# Altium footprint library con-3m.PCBLIB: 62 footprints (part 2 of 5)
Each footprint in its own frame and in the unit in brackets; x right, y up, seen from the top. Pads: shape width x height; smd on the part's side, far side on the other; paste and mask are expansions set on the pad; w line width, h text height; cw(c..) or ccw(c..) is an arc to the next point about the centre after c.
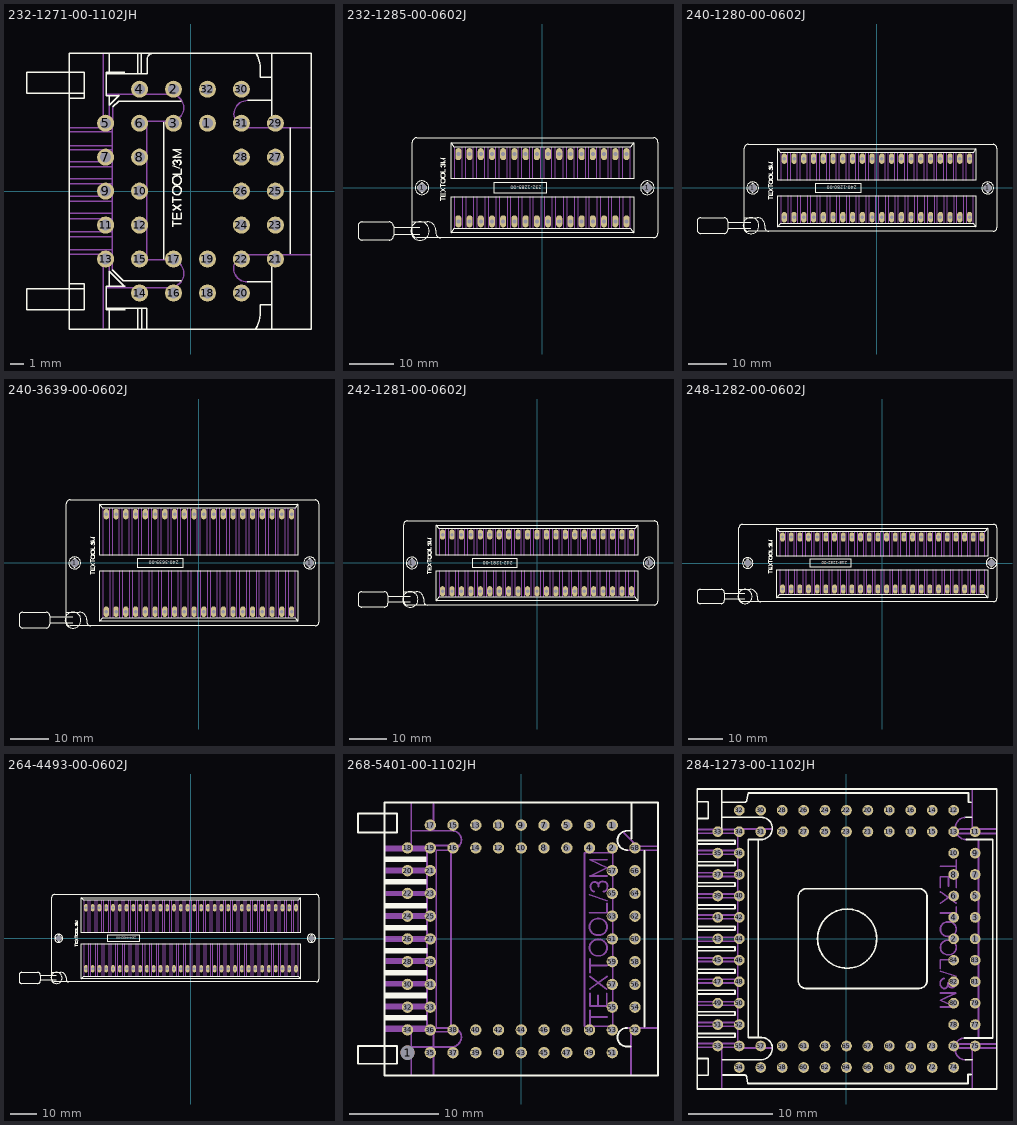
[diagram p1: the footprints below, top view; thin cyan lines are the x and y axes]

## 232-1271-00-1102JH [mil]
pads (32):
  round 50 hole 32: 1(50,200) 2(-50,300) 3(-50,200) 4(-150,300) 5(-250,200) 6(-150,200) 7(-250,100) 8(-150,100) 9(-250,0) 10(-150,0) 11(-250,-100) 12(-150,-100) 13(-250,-200) 14(-150,-300) 15(-150,-200) 16(-50,-300) 17(-50,-200) 18(50,-300) 19(50,-200) 20(150,-300) 21(250,-200) 22(150,-200) 23(250,-100) 24(150,-100) 25(250,0) 26(150,0) 27(250,100) 28(150,100) 29(250,200) 30(150,300) 31(150,200) 32(50,300)
Top Overlay:
  circle w4: c-40.01,2 r13
  circle w4: c-40.01,32 r13
  lines w4: -482.64,-348.94 -358.37,-348.94 ; -482.64,-348.8 -482.64,-288.21 ; -482.64,-287.85 -358.37,-287.85 ; -359.01,350 -482.64,350 -482.64,288 -358.37,288 ; -355.72,-348.94 -312.45,-348.94 -312.45,-272.57 -355.72,-272.57 ; -355.72,-287.85 -315,-287.85 ; -355.72,288 -315,288 ; -355.72,350 -312.45,350 -312.45,273 -354.45,273 ; -246.27,-345.12 -239.91,-345.12 ; -245,346 -127.91,346 -127.91,387 cw(c-108.86,386.95) -108.81,406 ; -239.91,-403.66 -239.91,-345.12 ; -239.91,-278.94 -239.91,-235.66 -196.63,-278.94 ; -239.91,280 -239.91,253 -209.98,283 ; -239.91,350 -239.91,405 ; -229.72,-231.84 -197.91,-263.66 -27.36,-263.66 ; -228.45,248 -211.9,265 -27.36,265 ; -214.5,281 -247.54,281 -247.54,350 -194.09,350 ; -192.81,-280.21 -247.54,-280.21 -247.54,-348.94 -192.7,-348.94 ; -155.91,-404.93 -155.91,-347.66 ; -155.91,349 -155.91,404 ; -144.45,349 -144.45,404 ; -143.18,-403.66 -143.18,-347.66 ; -129.18,-404.93 -129.18,-345.12 -239.91,-345.12 ; -78.27,-201.3 -78.27,203 ; -52.13,-105.17 -52.13,-87.31 ; -52.13,-64.35 -52.13,-80.93 -27.89,-80.93 -27.89,-64.35 ; -52.13,-56.69 -27.89,-40.11 ; -52.13,-40.75 -28.53,-56.69 ; -52.13,-33.73 -52.13,-15.87 ; -52.13,50 -27.89,50 -27.89,66 ; -52.13,75 -32.35,68 ; -50.85,-96.24 -27.89,-96.24 ; -50.85,-24.8 -27.89,-24.8 ; -46.39,78 cw(c-33.1,97.57) -48.94,80 cw(c-46.14,84.72) -47.66,90 cw(c-45.43,82.35) -43.2,90 cw(c-44.62,84.95) -39.37,85 ; -40.65,-79.02 -40.65,-65.62 ; -39.37,83 -39.37,85 ; -32.99,78 ccw(c-33.45,83.54) -29.17,80 ccw(c-35.55,84.27) -30.44,90 ccw(c-33.87,86.03) -38.73,88 ccw(c-31.55,84.91) -39.37,85 ; -27.89,100 -52.13,100 -27.89,111 -52.13,122 -27.89,122 ; 167,-267.48 238,-267.48 ; 169,267 237,267 ; 192,-404.93 ccw(c133.33,-363.77) 205,-364.21 205,-334.94 238,-334.94 ; 193,405 cw(c116.7,358.6) 206,359 206,335 237,335 ; 239,-404.93 239,-189.85 ; 239,190 239,404 ; 294,-184.76 294,186 ; -108.81,406 356,406 356,-406.21 -357,-406.21 -357,406 -108.81,406
Mechanical 16:
  lines w4: -355.09,-133.84 -232.91,-133.84 ; -355.09,-119.84 -232.91,-119.84 ; -354.45,-186.03 -229.72,-186.03 -229.72,187 -354.45,187 ; -354.45,-173.3 -232.27,-173.3 ; -354.45,-30.1 -232.27,-30.1 ; -354.45,-14.83 -232.27,-14.83 ; -354.45,21 -232.27,21 ; -354.45,36 -232.27,36 ; -354.45,72 -232.27,72 ; -354.45,86 -232.27,86 ; -354.45,122 -232.27,122 ; -354.45,133 -232.27,133 ; -354.45,175 -232.27,175 ; -353.81,-81.01 -230.36,-81.01 ; -353.81,-65.74 -231.63,-65.74 ; -256.45,-403.66 -256.45,-187.3 ; -256.45,190 -256.45,405 ; -246.27,285 -59.18,285 cw(c-58.95,245.77) -19.72,246 cw(c-60.58,245.86) -60.45,205 -129.18,205 -129.18,-202.57 -59.18,-202.57 cw(c-59.18,-242.03) -19.72,-242.03 cw(c-61.72,-242.03) -61.72,-284.03 -245,-284.03 ; -239.91,-235.66 -239.91,-187.3 ; -239.91,190 -239.91,253 ; -229.72,-231.84 -229.72,-187.3 ; -228.45,189 -228.45,248 ; 167,-267.48 cw(c166.73,-227.75) 127,-228.03 cw(c167.86,-228.16) 168,-187.3 355,-187.3 ; 169,267 ccw(c168.5,226.5) 128,227 ccw(c168,227) 168,187 355,187

## 232-1285-00-0602J [mil]
pads (34):
  round 79 hole 79: 1(-1074.02,0) 1(937,0)
  oval 54x108 hole 36: 1(-750,-300) 2(-650,-300) 3(-550,-300) 4(-450,-300) 5(-350,-300) 6(-250,-300) 7(-150,-300) 8(-50,-300) 9(50,-300) 10(150,-300) 11(250,-300) 12(350,-300) 13(450,-300) 14(550,-300) 15(650,-300) 16(750,-300) 17(750,300) 18(650,300) 19(550,300) 20(450,300) 21(350,300) 22(250,300) 23(150,300) 24(50,300) 25(-50,300) 26(-150,300) 27(-250,300) 28(-350,300) 29(-450,300) 30(-550,300) 31(-650,300) 32(-750,300)
Top Overlay:
  circle w4: c-1074.41,0 r61
  circle w8: c-1091.73,-386.22 r82
  circle w4: c936,0 r61
  lines w4: -1083.86,-11.81 ccw(c-1086.61,-11.81) -1086.61,-9.06 -1107.87,-9.06 cw(c-1107.87,0) -1116.93,0 cw(c-1107.4,0.47) -1107.87,10 -1086.22,10 ccw(c-1085.84,12.38) -1083.46,12 ; -1083.46,-11.81 -1083.46,-33.46 ccw(c-1074.41,-33.46) -1074.41,-42.52 ccw(c-1074.41,-33.46) -1065.35,-33.46 -1065.35,-12.2 ; -1083.46,13 -1083.46,34 cw(c-1074.44,33.97) -1074.41,43 cw(c-1074.38,33.97) -1065.35,34 -1065.35,12 ccw(c-1062.98,12.38) -1062.6,10 ; -1065.35,-11.81 cw(c-1062.6,-11.81) -1062.6,-9.06 -1040.94,-9.06 ccw(c-1040.94,0) -1031.89,0 ccw(c-1041.42,0.47) -1040.94,10 -1062.2,10 ; -909.45,143 -868.11,143 -868.11,165 ; -908.66,-115.75 -908.66,-84.65 ; -908.66,-46.46 -908.66,-74.02 -867.72,-74.02 -867.72,-45.28 ; -908.66,-33.07 -867.72,-4.72 ; -908.66,-4.72 -867.72,-33.07 ; -908.66,5 -908.66,36 ; -908.27,-100 -867.72,-100 ; -907.87,21 -867.72,21 ; -897.24,188 cw(c-894.51,200.38) -907.09,202 cw(c-898.77,200.56) -902.76,208 cw(c-896.45,197.98) -892.13,209 cw(c-895.01,201.96) -887.4,202 ; -888.58,-72.44 -888.58,-48.82 ; -887.4,199 -887.4,202 ; -876.77,187 ccw(c-876.46,195.96) -867.72,194 ccw(c-891.96,199.2) -867.32,202 ccw(c-879.13,200.78) -871.65,210 ccw(c-877.17,202.01) -882.68,210 ccw(c-878.04,201.87) -887.4,202 ; -867.72,223 -908.27,223 -867.72,242 -908.66,261 -867.72,261 ; 927,12 cw(c925,12) 925,10 903,10 ccw(c903.5,0.5) 894,0 ccw(c903.03,-0.03) 903,-9.06 924,-9.06 cw(c924.12,-11.93) 927,-11.81 927,-33.46 ccw(c936.03,-33.49) 936,-42.52 ccw(c935.97,-33.49) 945,-33.46 945,-12.2 ; 927,13 927,34 cw(c936,34) 936,43 cw(c936,34) 945,34 945,12 ccw(c947.5,12.5) 948,10 ; 945,-11.81 cw(c947.88,-11.93) 948,-9.06 970,-9.06 ccw(c969.97,-0.03) 979,0 ccw(c969.5,0.5) 970,10 949,10 ; -815,-400 815,-400 ; -815,-400 -815,-80 815,-80 815,-400 ; -815,-400 -785,-360 785,-360 815,-400 ; -815,400 -815,80 815,80 815,400 ; -815,400 815,400 ; -815,400 -785,360 785,360 815,400 ; -890.55,44 cw(c-890.55,62.5) -890.55,81 -885.43,81 cw(c-885.43,62.5) -885.43,44 -890.55,44 ; -890.55,92 cw(c-890.55,110.5) -890.55,129 -885.43,129 cw(c-885.43,110.5) -885.43,92 -890.55,92 ; -430,-50 35,-50 35,50 -430,50 -430,-50
  lines w8: -1326.38,-417.72 -1093.7,-417.72 ; -1326.38,-356.69 -1093.7,-356.69 ; -1156.69,-303.54 -1028.74,-303.54 cw(c-1028.74,-382.31) -950,-380.31 -950,-405.91 ccw(c-910.58,-405.91) -908.66,-445.28 ; -1645.28,-428.35 -1645.28,-344.09 cw(c-1605.91,-344.09) -1605.91,-304.72 -1367.72,-304.72 cw(c-1367.72,-344.09) -1328.35,-344.09 -1328.35,-428.35 cw(c-1367.72,-428.35) -1367.72,-467.72 -1605.91,-467.72 cw(c-1605.91,-428.35) -1645.28,-428.35 ; -1161.02,-405.91 ccw(c-1121.65,-405.91) -1121.65,-445.28 991,-445.28 ccw(c991.32,-405.59) 1031,-405.91 1031,406 ccw(c991,406) 991,446 -1121.65,446 ccw(c-1121.34,406.31) -1161.02,406 -1161.02,-405.91
  text "232-1285-00" at -5,20 h34
Mechanical 16:
  lines w4: -785,-360 -785,-80 ; -785,80 -785,360 ; -715,-360 -715,-80 ; -715,80 -715,360 ; -685,-360 -685,-80 ; -685,80 -685,360 ; -615,-360 -615,-80 ; -615,80 -615,360 ; -585,-360 -585,-80 ; -585,80 -585,360 ; -515,-360 -515,-80 ; -515,80 -515,360 ; -485,-360 -485,-80 ; -485,80 -485,360 ; -415,-360 -415,-80 ; -415,80 -415,360 ; -385,-360 -385,-80 ; -385,80 -385,360 ; -315,-360 -315,-80 ; -315,80 -315,360 ; -285,-360 -285,-80 ; -285,80 -285,360 ; -215,-360 -215,-80 ; -215,80 -215,360 ; -185,-360 -185,-80 ; -185,80 -185,360 ; -115,-360 -115,-80 ; -115,80 -115,360 ; -85,-360 -85,-80 ; -85,80 -85,360 ; -15,-360 -15,-80 ; -15,80 -15,360 ; 15,-360 15,-80 ; 15,80 15,360 ; 85,-360 85,-80 ; 85,80 85,360 ; 115,-360 115,-80 ; 115,80 115,360 ; 185,-360 185,-80 ; 185,80 185,360 ; 215,-360 215,-80 ; 215,80 215,360 ; 285,-360 285,-80 ; 285,80 285,360 ; 315,-360 315,-80 ; 315,80 315,360 ; 385,-360 385,-80 ; 385,80 385,360 ; 415,-360 415,-80 ; 415,80 415,360 ; 485,-360 485,-80 ; 485,80 485,360 ; 515,-360 515,-80 ; 515,80 515,360 ; 585,-360 585,-80 ; 585,80 585,360 ; 615,-360 615,-80 ; 615,80 615,360 ; 685,-360 685,-80 ; 685,80 685,360 ; 715,-360 715,-80 ; 715,80 715,360 ; 785,-360 785,-80 ; 785,80 785,360

## 240-1280-00-0602J [mil]
pads (42):
  round 79 hole 79: 1(-1274.02,0) 1(1137,0)
  oval 54x108 hole 36: 1(-950,-300) 2(-850,-300) 3(-750,-300) 4(-650,-300) 5(-550,-300) 6(-450,-300) 7(-350,-300) 8(-250,-300) 9(-150,-300) 10(-50,-300) 11(50,-300) 12(150,-300) 13(250,-300) 14(350,-300) 15(450,-300) 16(550,-300) 17(650,-300) 18(750,-300) 19(850,-300) 20(950,-300) 21(950,300) 22(850,300) 23(750,300) 24(650,300) 25(550,300) 26(450,300) 27(350,300) 28(250,300) 29(150,300) 30(50,300) 31(-50,300) 32(-150,300) 33(-250,300) 34(-350,300) 35(-450,300) 36(-550,300) 37(-650,300) 38(-750,300) 39(-850,300) 40(-950,300)
Top Overlay:
  circle w4: c-1274.41,0 r61
  circle w8: c-1291.73,-386.22 r82
  circle w4: c1136,0 r61
  lines w4: -1283.86,-11.81 ccw(c-1286.61,-11.81) -1286.61,-9.06 -1307.87,-9.06 cw(c-1307.87,0) -1316.93,0 cw(c-1307.4,0.47) -1307.87,10 -1286.22,10 ccw(c-1285.84,12.38) -1283.46,12 ; -1283.46,-11.81 -1283.46,-33.46 ccw(c-1274.41,-33.46) -1274.41,-42.52 ccw(c-1274.41,-33.46) -1265.35,-33.46 -1265.35,-12.2 ; -1283.46,13 -1283.46,34 cw(c-1274.44,33.97) -1274.41,43 cw(c-1274.38,33.97) -1265.35,34 -1265.35,12 ccw(c-1262.98,12.38) -1262.6,10 ; -1265.35,-11.81 cw(c-1262.6,-11.81) -1262.6,-9.06 -1240.94,-9.06 ccw(c-1240.94,0) -1231.89,0 ccw(c-1241.42,0.47) -1240.94,10 -1262.2,10 ; -1109.45,143 -1068.11,143 -1068.11,165 ; -1108.66,-115.75 -1108.66,-84.65 ; -1108.66,-46.46 -1108.66,-74.02 -1067.72,-74.02 -1067.72,-45.28 ; -1108.66,-33.07 -1067.72,-4.72 ; -1108.66,-4.72 -1067.72,-33.07 ; -1108.66,5 -1108.66,36 ; -1108.27,-100 -1067.72,-100 ; -1107.87,21 -1067.72,21 ; -1097.24,188 cw(c-1094.51,200.38) -1107.09,202 cw(c-1098.77,200.56) -1102.76,208 cw(c-1096.45,197.98) -1092.13,209 cw(c-1095.01,201.96) -1087.4,202 ; -1088.58,-72.44 -1088.58,-48.82 ; -1087.4,199 -1087.4,202 ; -1076.77,187 ccw(c-1076.46,195.96) -1067.72,194 ccw(c-1091.96,199.2) -1067.32,202 ccw(c-1079.13,200.78) -1071.65,210 ccw(c-1077.17,202.01) -1082.68,210 ccw(c-1078.04,201.87) -1087.4,202 ; -1067.72,223 -1108.27,223 -1067.72,242 -1108.66,261 -1067.72,261 ; 1127,12 cw(c1125,12) 1125,10 1103,10 ccw(c1103.5,0.5) 1094,0 ccw(c1103.03,-0.03) 1103,-9.06 1124,-9.06 cw(c1124.12,-11.93) 1127,-11.81 1127,-33.46 ccw(c1136.03,-33.49) 1136,-42.52 ccw(c1135.97,-33.49) 1145,-33.46 1145,-12.2 ; 1127,13 1127,34 cw(c1136,34) 1136,43 cw(c1136,34) 1145,34 1145,12 ccw(c1147.5,12.5) 1148,10 ; 1145,-11.81 cw(c1147.88,-11.93) 1148,-9.06 1170,-9.06 ccw(c1169.97,-0.03) 1179,0 ccw(c1169.5,0.5) 1170,10 1149,10 ; -1015,-400 1015,-400 ; -1015,-400 -1015,-80 1015,-80 1015,-400 ; -1015,-400 -985,-360 985,-360 1015,-400 ; -1015,400 -1015,80 1015,80 1015,400 ; -1015,400 1015,400 ; -1015,400 -985,360 985,360 1015,400 ; -1090.55,44 cw(c-1090.55,62.5) -1090.55,81 -1085.43,81 cw(c-1085.43,62.5) -1085.43,44 -1090.55,44 ; -1090.55,92 cw(c-1090.55,110.5) -1090.55,129 -1085.43,129 cw(c-1085.43,110.5) -1085.43,92 -1090.55,92 ; -630,-50 -165,-50 -165,50 -630,50 -630,-50
  lines w8: -1526.38,-417.72 -1293.7,-417.72 ; -1526.38,-356.69 -1293.7,-356.69 ; -1356.69,-303.54 -1228.74,-303.54 cw(c-1228.74,-382.31) -1150,-380.31 -1150,-405.91 ccw(c-1110.58,-405.91) -1108.66,-445.28 ; -1845.28,-428.35 -1845.28,-344.09 cw(c-1805.91,-344.09) -1805.91,-304.72 -1567.72,-304.72 cw(c-1567.72,-344.09) -1528.35,-344.09 -1528.35,-428.35 cw(c-1567.72,-428.35) -1567.72,-467.72 -1805.91,-467.72 cw(c-1805.91,-428.35) -1845.28,-428.35 ; -1361.02,-405.91 ccw(c-1321.65,-405.91) -1321.65,-445.28 1191,-445.28 ccw(c1191.32,-405.59) 1231,-405.91 1231,406 ccw(c1191,406) 1191,446 -1321.65,446 ccw(c-1321.34,406.31) -1361.02,406 -1361.02,-405.91
  text "240-1280-00" at -205,20 h34
Mechanical 16:
  lines w4: -985,-360 -985,-80 ; -985,80 -985,360 ; -915,-360 -915,-80 ; -915,80 -915,360 ; -885,-360 -885,-80 ; -885,80 -885,360 ; -815,-360 -815,-80 ; -815,80 -815,360 ; -785,-360 -785,-80 ; -785,80 -785,360 ; -715,-360 -715,-80 ; -715,80 -715,360 ; -685,-360 -685,-80 ; -685,80 -685,360 ; -615,-360 -615,-80 ; -615,80 -615,360 ; -585,-360 -585,-80 ; -585,80 -585,360 ; -515,-360 -515,-80 ; -515,80 -515,360 ; -485,-360 -485,-80 ; -485,80 -485,360 ; -415,-360 -415,-80 ; -415,80 -415,360 ; -385,-360 -385,-80 ; -385,80 -385,360 ; -315,-360 -315,-80 ; -315,80 -315,360 ; -285,-360 -285,-80 ; -285,80 -285,360 ; -215,-360 -215,-80 ; -215,80 -215,360 ; -185,-360 -185,-80 ; -185,80 -185,360 ; -115,-360 -115,-80 ; -115,80 -115,360 ; -85,-360 -85,-80 ; -85,80 -85,360 ; -15,-360 -15,-80 ; -15,80 -15,360 ; 15,-360 15,-80 ; 15,80 15,360 ; 85,-360 85,-80 ; 85,80 85,360 ; 115,-360 115,-80 ; 115,80 115,360 ; 185,-360 185,-80 ; 185,80 185,360 ; 215,-360 215,-80 ; 215,80 215,360 ; 285,-360 285,-80 ; 285,80 285,360 ; 315,-360 315,-80 ; 315,80 315,360 ; 385,-360 385,-80 ; 385,80 385,360 ; 415,-360 415,-80 ; 415,80 415,360 ; 485,-360 485,-80 ; 485,80 485,360 ; 515,-360 515,-80 ; 515,80 515,360 ; 585,-360 585,-80 ; 585,80 585,360 ; 615,-360 615,-80 ; 615,80 615,360 ; 685,-360 685,-80 ; 685,80 685,360 ; 715,-360 715,-80 ; 715,80 715,360 ; 785,-360 785,-80 ; 785,80 785,360 ; 815,-360 815,-80 ; 815,80 815,360 ; 885,-360 885,-80 ; 885,80 885,360 ; 915,-360 915,-80 ; 915,80 915,360 ; 985,-360 985,-80 ; 985,80 985,360

## 240-3639-00-0602J [mil]
pads (42):
  round 79 hole 79: 1(-1274.02,0) 1(1137,0)
  oval 54x108 hole 36: 1(-950,-500) 2(-850,-500) 3(-750,-500) 4(-650,-500) 5(-550,-500) 6(-450,-500) 7(-350,-500) 8(-250,-500) 9(-150,-500) 10(-50,-500) 11(50,-500) 12(150,-500) 13(250,-500) 14(350,-500) 15(450,-500) 16(550,-500) 17(650,-500) 18(750,-500) 19(850,-500) 20(950,-500) 21(950,500) 22(850,500) 23(750,500) 24(650,500) 25(550,500) 26(450,500) 27(350,500) 28(250,500) 29(150,500) 30(50,500) 31(-50,500) 32(-150,500) 33(-250,500) 34(-350,500) 35(-450,500) 36(-550,500) 37(-650,500) 38(-750,500) 39(-850,500) 40(-950,500)
Top Overlay:
  circle w4: c-1274.41,0 r61
  circle w8: c-1291.73,-586.22 r82
  circle w4: c1136,0 r61
  lines w4: -1283.86,-11.81 ccw(c-1286.61,-11.81) -1286.61,-9.06 -1307.87,-9.06 cw(c-1307.87,0) -1316.93,0 cw(c-1307.4,0.47) -1307.87,10 -1286.22,10 ccw(c-1285.84,12.38) -1283.46,12 ; -1283.46,-11.81 -1283.46,-33.46 ccw(c-1274.41,-33.46) -1274.41,-42.52 ccw(c-1274.41,-33.46) -1265.35,-33.46 -1265.35,-12.2 ; -1283.46,13 -1283.46,34 cw(c-1274.44,33.97) -1274.41,43 cw(c-1274.38,33.97) -1265.35,34 -1265.35,12 ccw(c-1262.98,12.38) -1262.6,10 ; -1265.35,-11.81 cw(c-1262.6,-11.81) -1262.6,-9.06 -1240.94,-9.06 ccw(c-1240.94,0) -1231.89,0 ccw(c-1241.42,0.47) -1240.94,10 -1262.2,10 ; -1109.45,143 -1068.11,143 -1068.11,165 ; -1108.66,-115.75 -1108.66,-84.65 ; -1108.66,-46.46 -1108.66,-74.02 -1067.72,-74.02 -1067.72,-45.28 ; -1108.66,-33.07 -1067.72,-4.72 ; -1108.66,-4.72 -1067.72,-33.07 ; -1108.66,5 -1108.66,36 ; -1108.27,-100 -1067.72,-100 ; -1107.87,21 -1067.72,21 ; -1097.24,188 cw(c-1094.51,200.38) -1107.09,202 cw(c-1098.77,200.56) -1102.76,208 cw(c-1096.45,197.98) -1092.13,209 cw(c-1095.01,201.96) -1087.4,202 ; -1088.58,-72.44 -1088.58,-48.82 ; -1087.4,199 -1087.4,202 ; -1076.77,187 ccw(c-1076.46,195.96) -1067.72,194 ccw(c-1091.96,199.2) -1067.32,202 ccw(c-1079.13,200.78) -1071.65,210 ccw(c-1077.17,202.01) -1082.68,210 ccw(c-1078.04,201.87) -1087.4,202 ; -1067.72,223 -1108.27,223 -1067.72,242 -1108.66,261 -1067.72,261 ; 1127,12 cw(c1125,12) 1125,10 1103,10 ccw(c1103.5,0.5) 1094,0 ccw(c1103.03,-0.03) 1103,-9.06 1124,-9.06 cw(c1124.12,-11.93) 1127,-11.81 1127,-33.46 ccw(c1136.03,-33.49) 1136,-42.52 ccw(c1135.97,-33.49) 1145,-33.46 1145,-12.2 ; 1127,13 1127,34 cw(c1136,34) 1136,43 cw(c1136,34) 1145,34 1145,12 ccw(c1147.5,12.5) 1148,10 ; 1145,-11.81 cw(c1147.88,-11.93) 1148,-9.06 1170,-9.06 ccw(c1169.97,-0.03) 1179,0 ccw(c1169.5,0.5) 1170,10 1149,10 ; -1015,-600 1015,-600 ; -1015,-600 -1015,-80 1015,-80 1015,-600 ; -1015,-600 -985,-560 985,-560 1015,-600 ; -1015,600 -1015,80 1015,80 1015,600 ; -1015,600 1015,600 ; -1015,600 -985,560 985,560 1015,600 ; -1090.55,44 cw(c-1090.55,62.5) -1090.55,81 -1085.43,81 cw(c-1085.43,62.5) -1085.43,44 -1090.55,44 ; -1090.55,92 cw(c-1090.55,110.5) -1090.55,129 -1085.43,129 cw(c-1085.43,110.5) -1085.43,92 -1090.55,92 ; -630,-50 -165,-50 -165,50 -630,50 -630,-50
  lines w8: -1526.38,-617.72 -1293.7,-617.72 ; -1526.38,-556.69 -1293.7,-556.69 ; -1356.69,-503.54 -1228.74,-503.54 cw(c-1228.74,-582.31) -1150,-580.31 -1150,-605.91 ccw(c-1110.58,-605.91) -1108.66,-645.28 ; -1845.28,-628.35 -1845.28,-544.09 cw(c-1805.91,-544.09) -1805.91,-504.72 -1567.72,-504.72 cw(c-1567.72,-544.09) -1528.35,-544.09 -1528.35,-628.35 cw(c-1567.72,-628.35) -1567.72,-667.72 -1805.91,-667.72 cw(c-1805.91,-628.35) -1845.28,-628.35 ; -1361.02,-605.91 ccw(c-1321.65,-605.91) -1321.65,-645.28 1191,-645.28 ccw(c1191.32,-605.59) 1231,-605.91 1231,606 ccw(c1191,606) 1191,646 -1321.65,646 ccw(c-1321.34,606.32) -1361.02,606 -1361.02,-605.91
  text "240-3639-00" at -205,20 h34
Mechanical 16:
  lines w4: -985,-560 -985,-80 ; -985,80 -985,560 ; -915,-560 -915,-80 ; -915,80 -915,560 ; -885,-560 -885,-80 ; -885,80 -885,560 ; -815,-560 -815,-80 ; -815,80 -815,560 ; -785,-560 -785,-80 ; -785,80 -785,560 ; -715,-560 -715,-80 ; -715,80 -715,560 ; -685,-560 -685,-80 ; -685,80 -685,560 ; -615,-560 -615,-80 ; -615,80 -615,560 ; -585,-560 -585,-80 ; -585,80 -585,560 ; -515,-560 -515,-80 ; -515,80 -515,560 ; -485,-560 -485,-80 ; -485,80 -485,560 ; -415,-560 -415,-80 ; -415,80 -415,560 ; -385,-560 -385,-80 ; -385,80 -385,560 ; -315,-560 -315,-80 ; -315,80 -315,560 ; -285,-560 -285,-80 ; -285,80 -285,560 ; -215,-560 -215,-80 ; -215,80 -215,560 ; -185,-560 -185,-80 ; -185,80 -185,560 ; -115,-560 -115,-80 ; -115,80 -115,560 ; -85,-560 -85,-80 ; -85,80 -85,560 ; -15,-560 -15,-80 ; -15,80 -15,560 ; 15,-560 15,-80 ; 15,80 15,560 ; 85,-560 85,-80 ; 85,80 85,560 ; 115,-560 115,-80 ; 115,80 115,560 ; 185,-560 185,-80 ; 185,80 185,560 ; 215,-560 215,-80 ; 215,80 215,560 ; 285,-560 285,-80 ; 285,80 285,560 ; 315,-560 315,-80 ; 315,80 315,560 ; 385,-560 385,-80 ; 385,80 385,560 ; 415,-560 415,-80 ; 415,80 415,560 ; 485,-560 485,-80 ; 485,80 485,560 ; 515,-560 515,-80 ; 515,80 515,560 ; 585,-560 585,-80 ; 585,80 585,560 ; 615,-560 615,-80 ; 615,80 615,560 ; 685,-560 685,-80 ; 685,80 685,560 ; 715,-560 715,-80 ; 715,80 715,560 ; 785,-560 785,-80 ; 785,80 785,560 ; 815,-560 815,-80 ; 815,80 815,560 ; 885,-560 885,-80 ; 885,80 885,560 ; 915,-560 915,-80 ; 915,80 915,560 ; 985,-560 985,-80 ; 985,80 985,560

## 242-1281-00-0602J [mil]
pads (44):
  round 79 hole 79: 1(-1324.02,0) 1(1187,0)
  oval 54x108 hole 36: 1(-1000,-300) 2(-900,-300) 3(-800,-300) 4(-700,-300) 5(-600,-300) 6(-500,-300) 7(-400,-300) 8(-300,-300) 9(-200,-300) 10(-100,-300) 11(0,-300) 12(100,-300) 13(200,-300) 14(300,-300) 15(400,-300) 16(500,-300) 17(600,-300) 18(700,-300) 19(800,-300) 20(900,-300) 21(1000,-300) 22(1000,300) 23(900,300) 24(800,300) 25(700,300) 26(600,300) 27(500,300) 28(400,300) 29(300,300) 30(200,300) 31(100,300) 32(0,300) 33(-100,300) 34(-200,300) 35(-300,300) 36(-400,300) 37(-500,300) 38(-600,300) 39(-700,300) 40(-800,300) 41(-900,300) 42(-1000,300)
Top Overlay:
  circle w4: c-1324.41,0 r61
  circle w8: c-1341.73,-386.22 r82
  circle w4: c1186,0 r61
  lines w4: -1333.86,-11.81 ccw(c-1336.61,-11.81) -1336.61,-9.06 -1357.87,-9.06 cw(c-1357.87,0) -1366.93,0 cw(c-1357.4,0.47) -1357.87,10 -1336.22,10 ccw(c-1335.84,12.38) -1333.46,12 ; -1333.46,-11.81 -1333.46,-33.46 ccw(c-1324.41,-33.46) -1324.41,-42.52 ccw(c-1324.41,-33.46) -1315.35,-33.46 -1315.35,-12.2 ; -1333.46,13 -1333.46,34 cw(c-1324.44,33.97) -1324.41,43 cw(c-1324.38,33.97) -1315.35,34 -1315.35,12 ccw(c-1312.98,12.38) -1312.6,10 ; -1315.35,-11.81 cw(c-1312.6,-11.81) -1312.6,-9.06 -1290.94,-9.06 ccw(c-1290.94,0) -1281.89,0 ccw(c-1291.42,0.47) -1290.94,10 -1312.2,10 ; -1159.45,143 -1118.11,143 -1118.11,165 ; -1158.66,-115.75 -1158.66,-84.65 ; -1158.66,-46.46 -1158.66,-74.02 -1117.72,-74.02 -1117.72,-45.28 ; -1158.66,-33.07 -1117.72,-4.72 ; -1158.66,-4.72 -1117.72,-33.07 ; -1158.66,5 -1158.66,36 ; -1158.27,-100 -1117.72,-100 ; -1157.87,21 -1117.72,21 ; -1147.24,188 cw(c-1144.51,200.38) -1157.09,202 cw(c-1148.77,200.56) -1152.76,208 cw(c-1146.45,197.98) -1142.13,209 cw(c-1145.01,201.96) -1137.4,202 ; -1138.58,-72.44 -1138.58,-48.82 ; -1137.4,199 -1137.4,202 ; -1126.77,187 ccw(c-1126.46,195.96) -1117.72,194 ccw(c-1141.96,199.2) -1117.32,202 ccw(c-1129.13,200.78) -1121.65,210 ccw(c-1127.17,202.01) -1132.68,210 ccw(c-1128.04,201.87) -1137.4,202 ; -1117.72,223 -1158.27,223 -1117.72,242 -1158.66,261 -1117.72,261 ; 1177,12 cw(c1175,12) 1175,10 1153,10 ccw(c1153.5,0.5) 1144,0 ccw(c1153.03,-0.03) 1153,-9.06 1174,-9.06 cw(c1174.12,-11.93) 1177,-11.81 1177,-33.46 ccw(c1186.03,-33.49) 1186,-42.52 ccw(c1185.97,-33.49) 1195,-33.46 1195,-12.2 ; 1177,13 1177,34 cw(c1186,34) 1186,43 cw(c1186,34) 1195,34 1195,12 ccw(c1197.5,12.5) 1198,10 ; 1195,-11.81 cw(c1197.88,-11.93) 1198,-9.06 1220,-9.06 ccw(c1219.97,-0.03) 1229,0 ccw(c1219.5,0.5) 1220,10 1199,10 ; -1065,-400 1065,-400 ; -1065,-400 -1065,-80 1065,-80 1065,-400 ; -1065,-400 -1035,-360 1035,-360 1065,-400 ; -1065,400 -1065,80 1065,80 1065,400 ; -1065,400 1065,400 ; -1065,400 -1035,360 1035,360 1065,400 ; -1140.55,44 cw(c-1140.55,62.5) -1140.55,81 -1135.43,81 cw(c-1135.43,62.5) -1135.43,44 -1140.55,44 ; -1140.55,92 cw(c-1140.55,110.5) -1140.55,129 -1135.43,129 cw(c-1135.43,110.5) -1135.43,92 -1140.55,92 ; -680,-50 -215,-50 -215,50 -680,50 -680,-50
  lines w8: -1576.38,-417.72 -1343.7,-417.72 ; -1576.38,-356.69 -1343.7,-356.69 ; -1406.69,-303.54 -1278.74,-303.54 cw(c-1278.74,-382.31) -1200,-380.31 -1200,-405.91 ccw(c-1160.58,-405.91) -1158.66,-445.28 ; -1895.28,-428.35 -1895.28,-344.09 cw(c-1855.91,-344.09) -1855.91,-304.72 -1617.72,-304.72 cw(c-1617.72,-344.09) -1578.35,-344.09 -1578.35,-428.35 cw(c-1617.72,-428.35) -1617.72,-467.72 -1855.91,-467.72 cw(c-1855.91,-428.35) -1895.28,-428.35 ; -1411.02,-405.91 ccw(c-1371.65,-405.91) -1371.65,-445.28 1241,-445.28 ccw(c1241.32,-405.59) 1281,-405.91 1281,406 ccw(c1241,406) 1241,446 -1371.65,446 ccw(c-1371.34,406.31) -1411.02,406 -1411.02,-405.91
  text "242-1281-00" at -255,20 h34
Mechanical 16:
  lines w4: -1035,-360 -1035,-80 ; -1035,80 -1035,360 ; -965,-360 -965,-80 ; -965,80 -965,360 ; -935,-360 -935,-80 ; -935,80 -935,360 ; -865,-360 -865,-80 ; -865,80 -865,360 ; -835,-360 -835,-80 ; -835,80 -835,360 ; -765,-360 -765,-80 ; -765,80 -765,360 ; -735,-360 -735,-80 ; -735,80 -735,360 ; -665,-360 -665,-80 ; -665,80 -665,360 ; -635,-360 -635,-80 ; -635,80 -635,360 ; -565,-360 -565,-80 ; -565,80 -565,360 ; -535,-360 -535,-80 ; -535,80 -535,360 ; -465,-360 -465,-80 ; -465,80 -465,360 ; -435,-360 -435,-80 ; -435,80 -435,360 ; -365,-360 -365,-80 ; -365,80 -365,360 ; -335,-360 -335,-80 ; -335,80 -335,360 ; -265,-360 -265,-80 ; -265,80 -265,360 ; -235,-360 -235,-80 ; -235,80 -235,360 ; -165,-360 -165,-80 ; -165,80 -165,360 ; -135,-360 -135,-80 ; -135,80 -135,360 ; -65,-360 -65,-80 ; -65,80 -65,360 ; -35,-360 -35,-80 ; -35,80 -35,360 ; 35,-360 35,-80 ; 35,80 35,360 ; 65,-360 65,-80 ; 65,80 65,360 ; 135,-360 135,-80 ; 135,80 135,360 ; 165,-360 165,-80 ; 165,80 165,360 ; 235,-360 235,-80 ; 235,80 235,360 ; 265,-360 265,-80 ; 265,80 265,360 ; 335,-360 335,-80 ; 335,80 335,360 ; 365,-360 365,-80 ; 365,80 365,360 ; 435,-360 435,-80 ; 435,80 435,360 ; 465,-360 465,-80 ; 465,80 465,360 ; 535,-360 535,-80 ; 535,80 535,360 ; 565,-360 565,-80 ; 565,80 565,360 ; 635,-360 635,-80 ; 635,80 635,360 ; 665,-360 665,-80 ; 665,80 665,360 ; 735,-360 735,-80 ; 735,80 735,360 ; 765,-360 765,-80 ; 765,80 765,360 ; 835,-360 835,-80 ; 835,80 835,360 ; 865,-360 865,-80 ; 865,80 865,360 ; 935,-360 935,-80 ; 935,80 935,360 ; 965,-360 965,-80 ; 965,80 965,360 ; 1035,-360 1035,-80 ; 1035,80 1035,360

## 248-1282-00-0602J [mil]
pads (50):
  round 79 hole 79: 1(-1551.18,0) 1(1260,0)
  oval 54x108 hole 36: 1(-1150,-300) 2(-1050,-300) 3(-950,-300) 4(-850,-300) 5(-750,-300) 6(-650,-300) 7(-550,-300) 8(-450,-300) 9(-350,-300) 10(-250,-300) 11(-150,-300) 12(-50,-300) 13(50,-300) 14(150,-300) 15(250,-300) 16(350,-300) 17(450,-300) 18(550,-300) 19(650,-300) 20(750,-300) 21(850,-300) 22(950,-300) 23(1050,-300) 24(1150,-300) 25(1150,300) 26(1050,300) 27(950,300) 28(850,300) 29(750,300) 30(650,300) 31(550,300) 32(450,300) 33(350,300) 34(250,300) 35(150,300) 36(50,300) 37(-50,300) 38(-150,300) 39(-250,300) 40(-350,300) 41(-450,300) 42(-550,300) 43(-650,300) 44(-750,300) 45(-850,300) 46(-950,300) 47(-1050,300) 48(-1150,300)
Top Overlay:
  circle w4: c-1551.57,0 r61
  circle w8: c-1583.46,-386.22 r82
  circle w4: c1260,0 r61
  lines w4: -1561.02,-11.81 ccw(c-1563.78,-11.81) -1563.78,-9.06 -1585.04,-9.06 cw(c-1585.04,0) -1594.09,0 cw(c-1584.57,0.47) -1585.04,10 -1563.39,10 ccw(c-1563.01,12.38) -1560.63,12 ; -1560.63,-11.81 -1560.63,-33.46 ccw(c-1551.57,-33.46) -1551.57,-42.52 ccw(c-1551.57,-33.46) -1542.52,-33.46 -1542.52,-12.2 ; -1560.63,13 -1560.63,34 cw(c-1551.6,33.97) -1551.57,43 cw(c-1551.55,33.97) -1542.52,34 -1542.52,12 ccw(c-1540.14,12.38) -1539.76,10 ; -1542.52,-11.81 cw(c-1539.76,-11.81) -1539.76,-9.06 -1518.11,-9.06 ccw(c-1518.11,0) -1509.06,0 ccw(c-1518.58,0.47) -1518.11,10 -1539.37,10 ; -1309.45,143 -1268.11,143 -1268.11,165 ; -1308.66,-115.75 -1308.66,-84.65 ; -1308.66,-46.46 -1308.66,-74.02 -1267.72,-74.02 -1267.72,-45.28 ; -1308.66,-33.07 -1267.72,-4.72 ; -1308.66,-4.72 -1267.72,-33.07 ; -1308.66,5 -1308.66,36 ; -1308.27,-100 -1267.72,-100 ; -1307.87,21 -1267.72,21 ; -1297.24,188 cw(c-1294.51,200.38) -1307.09,202 cw(c-1298.77,200.56) -1302.76,208 cw(c-1296.45,197.98) -1292.13,209 cw(c-1295.01,201.96) -1287.4,202 ; -1288.58,-72.44 -1288.58,-48.82 ; -1287.4,199 -1287.4,202 ; -1276.77,187 ccw(c-1276.46,195.96) -1267.72,194 ccw(c-1291.96,199.2) -1267.32,202 ccw(c-1279.13,200.78) -1271.65,210 ccw(c-1277.17,202.01) -1282.68,210 ccw(c-1278.04,201.87) -1287.4,202 ; -1267.72,223 -1308.27,223 -1267.72,242 -1308.66,261 -1267.72,261 ; 1250,-11.81 ccw(c1247.62,-11.43) 1248,-9.06 1226,-9.06 cw(c1226.03,-0.03) 1217,0 cw(c1226.5,0.5) 1226,10 1248,10 ccw(c1248.5,12.5) 1251,12 ; 1251,-11.81 1251,-33.46 ccw(c1260.03,-33.49) 1260,-42.52 ccw(c1259.97,-33.49) 1269,-33.46 1269,-12.2 ; 1251,13 1251,34 cw(c1260,34) 1260,43 cw(c1260,34) 1269,34 1269,12 ccw(c1271.5,12.5) 1272,10 1293,10 cw(c1292.5,0.5) 1302,0 cw(c1292.97,-0.03) 1293,-9.06 1272,-9.06 ccw(c1271.88,-11.93) 1269,-11.81 ; -1215,-400 1215,-400 ; -1215,-400 -1215,-80 1215,-80 1215,-400 ; -1215,-400 -1185,-360 1185,-360 1215,-400 ; -1215,400 -1215,80 1215,80 1215,400 ; -1215,400 1215,400 ; -1215,400 -1185,360 1185,360 1215,400 ; -1290.55,44 cw(c-1290.55,62.5) -1290.55,81 -1285.43,81 cw(c-1285.43,62.5) -1285.43,44 -1290.55,44 ; -1290.55,92 cw(c-1290.55,110.5) -1290.55,129 -1285.43,129 cw(c-1285.43,110.5) -1285.43,92 -1290.55,92 ; -830,-50 -365,-50 -365,50 -830,50 -830,-50
  lines w8: -1818.11,-417.72 -1585.43,-417.72 ; -1818.11,-356.69 -1585.43,-356.69 ; -1648.43,-303.54 -1520.47,-303.54 cw(c-1520.47,-382.31) -1441.73,-380.32 -1441.73,-405.91 ccw(c-1402.32,-405.91) -1400.39,-445.28 ; -2137.01,-428.35 -2137.01,-344.09 cw(c-2097.64,-344.09) -2097.64,-304.72 -1859.45,-304.72 cw(c-1859.45,-344.09) -1820.08,-344.09 -1820.08,-428.35 cw(c-1859.45,-428.35) -1859.45,-467.72 -2097.64,-467.72 cw(c-2097.64,-428.35) -2137.01,-428.35 ; -1652.76,-405.91 ccw(c-1613.39,-405.91) -1613.39,-445.28 1285,-445.28 ccw(c1284.82,-406.09) 1324,-405.91 1324,406 ccw(c1284.5,406.5) 1285,446 -1613.39,446 ccw(c-1613.07,406.31) -1652.76,406 -1652.76,-405.91
  text "248-1282-00" at -405,20 h34
Mechanical 16:
  lines w4: -1185,-360 -1185,-80 ; -1185,80 -1185,360 ; -1115,-360 -1115,-80 ; -1115,80 -1115,360 ; -1085,-360 -1085,-80 ; -1085,80 -1085,360 ; -1015,-360 -1015,-80 ; -1015,80 -1015,360 ; -985,-360 -985,-80 ; -985,80 -985,360 ; -915,-360 -915,-80 ; -915,80 -915,360 ; -885,-360 -885,-80 ; -885,80 -885,360 ; -815,-360 -815,-80 ; -815,80 -815,360 ; -785,-360 -785,-80 ; -785,80 -785,360 ; -715,-360 -715,-80 ; -715,80 -715,360 ; -685,-360 -685,-80 ; -685,80 -685,360 ; -615,-360 -615,-80 ; -615,80 -615,360 ; -585,-360 -585,-80 ; -585,80 -585,360 ; -515,-360 -515,-80 ; -515,80 -515,360 ; -485,-360 -485,-80 ; -485,80 -485,360 ; -415,-360 -415,-80 ; -415,80 -415,360 ; -385,-360 -385,-80 ; -385,80 -385,360 ; -315,-360 -315,-80 ; -315,80 -315,360 ; -285,-360 -285,-80 ; -285,80 -285,360 ; -215,-360 -215,-80 ; -215,80 -215,360 ; -185,-360 -185,-80 ; -185,80 -185,360 ; -115,-360 -115,-80 ; -115,80 -115,360 ; -85,-360 -85,-80 ; -85,80 -85,360 ; -15,-360 -15,-80 ; -15,80 -15,360 ; 15,-360 15,-80 ; 15,80 15,360 ; 85,-360 85,-80 ; 85,80 85,360 ; 115,-360 115,-80 ; 115,80 115,360 ; 185,-360 185,-80 ; 185,80 185,360 ; 215,-360 215,-80 ; 215,80 215,360 ; 285,-360 285,-80 ; 285,80 285,360 ; 315,-360 315,-80 ; 315,80 315,360 ; 385,-360 385,-80 ; 385,80 385,360 ; 415,-360 415,-80 ; 415,80 415,360 ; 485,-360 485,-80 ; 485,80 485,360 ; 515,-360 515,-80 ; 515,80 515,360 ; 585,-360 585,-80 ; 585,80 585,360 ; 615,-360 615,-80 ; 615,80 615,360 ; 685,-360 685,-80 ; 685,80 685,360 ; 715,-360 715,-80 ; 715,80 715,360 ; 785,-360 785,-80 ; 785,80 785,360 ; 815,-360 815,-80 ; 815,80 815,360 ; 885,-360 885,-80 ; 885,80 885,360 ; 915,-360 915,-80 ; 915,80 915,360 ; 985,-360 985,-80 ; 985,80 985,360 ; 1015,-360 1015,-80 ; 1015,80 1015,360 ; 1085,-360 1085,-80 ; 1085,80 1085,360 ; 1115,-360 1115,-80 ; 1115,80 1115,360 ; 1185,-360 1185,-80 ; 1185,80 1185,360

## 264-4493-00-0602J [mil]
pads (66):
  round 79 hole 79: 1(-1951.18,0) 1(1778,0)
  oval 54x108 hole 36: 1(-1550,-450) 2(-1450,-450) 3(-1350,-450) 4(-1250,-450) 5(-1150,-450) 6(-1050,-450) 7(-950,-450) 8(-850,-450) 9(-750,-450) 10(-650,-450) 11(-550,-450) 12(-450,-450) 13(-350,-450) 14(-250,-450) 15(-150,-450) 16(-50,-450) 17(50,-450) 18(150,-450) 19(250,-450) 20(350,-450) 21(450,-450) 22(550,-450) 23(650,-450) 24(750,-450) 25(850,-450) 26(950,-450) 27(1050,-450) 28(1150,-450) 29(1250,-450) 30(1350,-450) 31(1450,-450) 32(1550,-450) 33(1550,450) 34(1450,450) 35(1350,450) 36(1250,450) 37(1150,450) 38(1050,450) 39(950,450) 40(850,450) 41(750,450) 42(650,450) 43(550,450) 44(450,450) 45(350,450) 46(250,450) 47(150,450) 48(50,450) 49(-50,450) 50(-150,450) 51(-250,450) 52(-350,450) 53(-450,450) 54(-550,450) 55(-650,450) 56(-750,450) 57(-850,450) 58(-950,450) 59(-1050,450) 60(-1150,450) 61(-1250,450) 62(-1350,450) 63(-1450,450) 64(-1550,450)
Top Overlay:
  circle w4: c-1951.57,0 r61
  circle w8: c-1983.46,-586.22 r82
  circle w4: c1777,0 r61
  lines w4: -1961.02,-11.81 ccw(c-1963.78,-11.81) -1963.78,-9.06 -1985.04,-9.06 cw(c-1985.04,0) -1994.09,0 cw(c-1984.57,0.47) -1985.04,10 -1963.39,10 ccw(c-1963.01,12.38) -1960.63,12 ; -1960.63,-11.81 -1960.63,-33.46 ccw(c-1951.57,-33.46) -1951.57,-42.52 ccw(c-1951.57,-33.46) -1942.52,-33.46 -1942.52,-12.2 ; -1960.63,13 -1960.63,34 cw(c-1951.6,33.97) -1951.57,43 cw(c-1951.55,33.97) -1942.52,34 -1942.52,12 ccw(c-1940.14,12.38) -1939.76,10 ; -1942.52,-11.81 cw(c-1939.76,-11.81) -1939.76,-9.06 -1918.11,-9.06 ccw(c-1918.11,0) -1909.06,0 ccw(c-1918.58,0.47) -1918.11,10 -1939.37,10 ; -1709.45,143 -1668.11,143 -1668.11,165 ; -1708.66,-115.75 -1708.66,-84.65 ; -1708.66,-46.46 -1708.66,-74.02 -1667.72,-74.02 -1667.72,-45.28 ; -1708.66,-33.07 -1667.72,-4.72 ; -1708.66,-4.72 -1667.72,-33.07 ; -1708.66,5 -1708.66,36 ; -1708.27,-100 -1667.72,-100 ; -1707.87,21 -1667.72,21 ; -1697.24,188 cw(c-1694.51,200.38) -1707.09,202 cw(c-1698.77,200.56) -1702.76,208 cw(c-1696.45,197.98) -1692.13,209 cw(c-1695.01,201.96) -1687.4,202 ; -1688.58,-72.44 -1688.58,-48.82 ; -1687.4,199 -1687.4,202 ; -1676.77,187 ccw(c-1676.46,195.96) -1667.72,194 ccw(c-1691.96,199.2) -1667.32,202 ccw(c-1679.13,200.78) -1671.65,210 ccw(c-1677.17,202.01) -1682.68,210 ccw(c-1678.04,201.87) -1687.4,202 ; -1667.72,223 -1708.27,223 -1667.72,242 -1708.66,261 -1667.72,261 ; 1768,12 cw(c1765.5,12.5) 1765,10 1744,10 ccw(c1744.5,0.5) 1735,0 ccw(c1744.03,-0.03) 1744,-9.06 1765,-9.06 cw(c1765.12,-11.93) 1768,-11.81 1768,-33.46 ccw(c1777.03,-33.49) 1777,-42.52 ccw(c1776.97,-33.49) 1786,-33.46 1786,-12.2 ; 1768,13 1768,34 cw(c1777,34) 1777,43 cw(c1777,34) 1786,34 1786,12 ccw(c1788.5,12.5) 1789,10 1811,10 cw(c1810.5,0.5) 1820,0 cw(c1810.97,-0.03) 1811,-9.06 1789,-9.06 ccw(c1788.88,-11.93) 1786,-11.81 ; -1615,-600 1615,-600 ; -1615,-600 -1615,-80 1615,-80 1615,-600 ; -1615,-600 -1585,-560 1585,-560 1615,-600 ; -1615,600 -1615,80 1615,80 1615,600 ; -1615,600 1615,600 ; -1615,600 -1585,560 1585,560 1615,600 ; -1690.55,44 cw(c-1690.55,62.5) -1690.55,81 -1685.43,81 cw(c-1685.43,62.5) -1685.43,44 -1690.55,44 ; -1690.55,92 cw(c-1690.55,110.5) -1690.55,129 -1685.43,129 cw(c-1685.43,110.5) -1685.43,92 -1690.55,92 ; -1230,-50 -765,-50 -765,50 -1230,50 -1230,-50
  lines w8: -2218.11,-617.72 -1985.43,-617.72 ; -2218.11,-556.69 -1985.43,-556.69 ; -2048.43,-503.54 -1920.47,-503.54 cw(c-1920.47,-582.31) -1841.73,-580.32 -1841.73,-605.91 ccw(c-1802.32,-605.91) -1800.39,-645.28 ; -2537.01,-628.35 -2537.01,-544.09 cw(c-2497.64,-544.09) -2497.64,-504.72 -2259.45,-504.72 cw(c-2259.45,-544.09) -2220.08,-544.09 -2220.08,-628.35 cw(c-2259.45,-628.35) -2259.45,-667.72 -2497.64,-667.72 cw(c-2497.64,-628.35) -2537.01,-628.35 ; -2052.76,-605.91 ccw(c-2013.39,-605.91) -2013.39,-645.28 1849,-645.28 ccw(c1849.32,-605.59) 1889,-605.91 1889,606 ccw(c1849,606) 1849,646 -2013.39,646 ccw(c-2013.07,606.32) -2052.76,606 -2052.76,-605.91
  text "264-4493-00" at -805,20 h34
Mechanical 16:
  lines w4: -1585,-560 -1585,-80 ; -1585,80 -1585,560 ; -1515,-560 -1515,-80 ; -1515,80 -1515,560 ; -1485,-560 -1485,-80 ; -1485,80 -1485,560 ; -1415,-560 -1415,-80 ; -1415,80 -1415,560 ; -1385,-560 -1385,-80 ; -1385,80 -1385,560 ; -1315,-560 -1315,-80 ; -1315,80 -1315,560 ; -1285,-560 -1285,-80 ; -1285,80 -1285,560 ; -1215,-560 -1215,-80 ; -1215,80 -1215,560 ; -1185,-560 -1185,-80 ; -1185,80 -1185,560 ; -1115,-560 -1115,-80 ; -1115,80 -1115,560 ; -1085,-560 -1085,-80 ; -1085,80 -1085,560 ; -1015,-560 -1015,-80 ; -1015,80 -1015,560 ; -985,-560 -985,-80 ; -985,80 -985,560 ; -915,-560 -915,-80 ; -915,80 -915,560 ; -885,-560 -885,-80 ; -885,80 -885,560 ; -815,-560 -815,-80 ; -815,80 -815,560 ; -785,-560 -785,-80 ; -785,80 -785,560 ; -715,-560 -715,-80 ; -715,80 -715,560 ; -685,-560 -685,-80 ; -685,80 -685,560 ; -615,-560 -615,-80 ; -615,80 -615,560 ; -585,-560 -585,-80 ; -585,80 -585,560 ; -515,-560 -515,-80 ; -515,80 -515,560 ; -485,-560 -485,-80 ; -485,80 -485,560 ; -415,-560 -415,-80 ; -415,80 -415,560 ; -385,-560 -385,-80 ; -385,80 -385,560 ; -315,-560 -315,-80 ; -315,80 -315,560 ; -285,-560 -285,-80 ; -285,80 -285,560 ; -215,-560 -215,-80 ; -215,80 -215,560 ; -185,-560 -185,-80 ; -185,80 -185,560 ; -115,-560 -115,-80 ; -115,80 -115,560 ; -85,-560 -85,-80 ; -85,80 -85,560 ; -15,-560 -15,-80 ; -15,80 -15,560 ; 15,-560 15,-80 ; 15,80 15,560 ; 85,-560 85,-80 ; 85,80 85,560 ; 115,-560 115,-80 ; 115,80 115,560 ; 185,-560 185,-80 ; 185,80 185,560 ; 215,-560 215,-80 ; 215,80 215,560 ; 285,-560 285,-80 ; 285,80 285,560 ; 315,-560 315,-80 ; 315,80 315,560 ; 385,-560 385,-80 ; 385,80 385,560 ; 415,-560 415,-80 ; 415,80 415,560 ; 485,-560 485,-80 ; 485,80 485,560 ; 515,-560 515,-80 ; 515,80 515,560 ; 585,-560 585,-80 ; 585,80 585,560 ; 615,-560 615,-80 ; 615,80 615,560 ; 685,-560 685,-80 ; 685,80 685,560 ; 715,-560 715,-80 ; 715,80 715,560 ; 785,-560 785,-80 ; 785,80 785,560 ; 815,-560 815,-80 ; 815,80 815,560 ; 885,-560 885,-80 ; 885,80 885,560 ; 915,-560 915,-80 ; 915,80 915,560 ; 985,-560 985,-80 ; 985,80 985,560 ; 1015,-560 1015,-80 ; 1015,80 1015,560 ; 1085,-560 1085,-80 ; 1085,80 1085,560 ; 1115,-560 1115,-80 ; 1115,80 1115,560 ; 1185,-560 1185,-80 ; 1185,80 1185,560 ; 1215,-560 1215,-80 ; 1215,80 1215,560 ; 1285,-560 1285,-80 ; 1285,80 1285,560 ; 1315,-560 1315,-80 ; 1315,80 1315,560 ; 1385,-560 1385,-80 ; 1385,80 1385,560 ; 1415,-560 1415,-80 ; 1415,80 1415,560 ; 1485,-560 1485,-80 ; 1485,80 1485,560 ; 1515,-560 1515,-80 ; 1515,80 1515,560 ; 1585,-560 1585,-80 ; 1585,80 1585,560

## 268-5401-00-1102JH [mil]
pads (69):
  round 63 hole 63: 1(-500,-500)
  round 50 hole 32: 1(400,500) 2(400,400) 3(300,500) 4(300,400) 5(200,500) 6(200,400) 7(100,500) 8(100,400) 9(0,500) 10(0,400) 11(-100,500) 12(-100,400) 13(-200,500) 14(-200,400) 15(-300,500) 16(-300,400) 17(-400,500) 18(-500,400) 19(-400,400) 20(-500,300) 21(-400,300) 22(-500,200) 23(-400,200) 24(-500,100) 25(-400,100) 26(-500,0) 27(-400,0) 28(-500,-100) 29(-400,-100) 30(-500,-200) 31(-400,-200) 32(-500,-300) 33(-400,-300) 34(-500,-400) 35(-400,-500) 36(-400,-400) 37(-300,-500) 38(-300,-400) 39(-200,-500) 40(-200,-400) 41(-100,-500) 42(-100,-400) 43(0,-500) 44(0,-400) 45(100,-500) 46(100,-400) 47(200,-500) 48(200,-400) 49(300,-500) 50(300,-400) 51(400,-500) 52(500,-400) 53(400,-400) 54(500,-300) 55(400,-300) 56(500,-200) 57(400,-200) 58(500,-100) 59(400,-100) 60(500,0) 61(400,0) 62(500,100) 63(400,100) 64(500,200) 65(400,200) 66(500,300) 67(400,300) 68(500,400)
Top Overlay:
  region: -415.41,-359.45 -415.41,-334.96 -599.07,-334.96 -599.07,-359.45
  region: -415.41,-261.5 -415.41,-235.26 -599.07,-235.26 -599.07,-261.5
  region: -415.41,-161.8 -415.41,-137.31 -599.07,-137.31 -599.07,-161.8
  region: -413.22,-63.39 -413.22,-38.91 -599.52,-38.91 -599.52,-63.39
  region: -415.38,35.89 -415.38,60.38 -599.11,60.38 -599.11,35.89
  region: -413.87,134.26 -413.87,158.74 -598.87,158.74 -598.87,134.26
  region: -415.87,239.26 -415.87,263.74 -596.87,263.74 -596.87,239.26
  region: -415.74,337.26 -415.74,361.74 -598.74,361.74 -598.74,337.26
  lines w8: -717.62,-472.44 -717.62,-548.36 -603.68,-548.36 ; -717.18,-472.44 -717.18,-471.4 -603.68,-471.4 ; -603.68,467 -717.18,467 -717.18,551 -603.68,551 ; -599.07,-471.4 -546.6,-471.4 -546.6,-548.36 -595.57,-548.36 ; -599.07,467 -546.6,467 -546.6,551 -599.07,551 ; 465,-390.94 ccw(c464.99,-432.92) 423,-432.92 ccw(c463.11,-433.03) 463,-473.15 481,-473.15 ; 467,390 cw(c466.5,433.5) 423,433 cw(c465,433) 465,475 482,475 ; 484,440 484,596 ; 542,-385.69 542,386 ; -600.82,-600.83 601,-600.83 601,600 -600.82,600 -600.82,-600.83
Mechanical 16:
  region: -415.41,-310.48 -415.41,-284.24 -599.07,-284.24 -599.07,-310.48
  region: -415.41,-209.03 -415.41,-184.54 -599.07,-184.54 -599.07,-209.03
  region: -413.67,-111.07 -413.67,-84.84 -597.32,-84.84 -597.32,-111.07
  region: -413.52,-12.97 -413.52,13.26 -599.22,13.26 -599.22,-12.97
  region: -415.24,86.88 -415.24,113.12 -599.24,113.12 -599.24,86.88
  region: -415.37,188.63 -415.37,211.37 -597.37,211.37 -597.37,188.63
  region: -415.37,286.88 -415.37,313.12 -597.37,313.12 -597.37,286.88
  region: -415.74,384.38 -415.74,410.62 -598.74,410.62 -598.74,384.38
  region: -417.17,-408.43 -417.17,-380.44 -599.07,-380.44 -599.07,-408.43
  lines w8: -597.32,407 -417.17,407 ; -595.57,-404.93 -417.17,-404.93 ; -483.63,-597.33 -483.63,-406.68 ; -483.63,407 -483.63,596 ; -481.88,-474.89 -306.97,-474.89 ccw(c-306.97,-431.16) -263.24,-431.17 ccw(c-303.47,-431.17) -303.47,-390.94 -373.44,-390.94 -373.44,390 -308.72,390 ccw(c-308.48,435.24) -263.24,435 ccw(c-303.36,434.88) -303.47,475 -480.13,475 ; -385.68,-597.33 -385.68,-410.18 ; -385.68,479 -385.68,594 ; -308.72,-387.44 -308.72,386 ; -275.48,-408.43 -413.67,-408.43 -413.67,411 -275.48,411 ; 300,115 377,115 377,157 ; 300,194 377,168 ; 302,-373.44 302,-343.71 ; 302,-313.98 302,-343.71 ; 302,-240.51 302,-294.73 376,-294.73 376,-240.51 ; 302,-219.52 377,-165.3 ; 302,-165.3 376,-221.27 ; 302,-147.81 302,-116.32 ; 302,-88.33 302,-116.32 ; 321,208 cw(c323.94,226.82) 309,215 cw(c327.66,229.52) 306,239 cw(c322.87,232.35) 327,250 cw(c322.72,234.29) 339,234 ; 337,-291.24 337,-247.51 ; 339,229 339,234 ; 360,208 ccw(c360.75,224.98) 377,220 ccw(c338.97,232.58) 379,234 ccw(c360.51,233.57) 369,250 ccw(c358.62,225.69) 351,251 ccw(c354.64,235.79) 339,236 339,234 ; 377,-343.71 302,-343.71 ; 377,-116.32 302,-116.32 ; 377,276 302,276 377,313 302,348 377,348 ; 451,467 510,407 598,407 ; 465,-390.94 596,-390.94 ; 467,390 598,390 ; 482,-597.33 482,-396.19 ; 278,-383.94 402,-383.94 402,379 278,379 278,-383.94 ; 335,-74.34 cw(c335.87,-38.49) 335,-2.63 342,-2.63 cw(c341.13,-38.49) 342,-74.34 335,-74.34 ; 335,17 cw(c335.88,53) 335,89 342,89 cw(c341.12,53) 342,17 335,17

## 284-1273-00-1102JH [mil]
pads (84):
  round 50 hole 32: 1(600,0) 2(500,0) 3(600,100) 4(500,100) 5(600,200) 6(500,200) 7(600,300) 8(500,300) 9(600,400) 10(500,400) 11(600,500) 12(500,600) 13(500,500) 14(400,600) 15(400,500) 16(300,600) 17(300,500) 18(200,600) 19(200,500) 20(100,600) 21(100,500) 22(0,600) 23(0,500) 24(-100,600) 25(-100,500) 26(-200,600) 27(-200,500) 28(-300,600) 29(-300,500) 30(-400,600) 31(-400,500) 32(-500,600) 33(-600,500) 34(-500,500) 35(-600,400) 36(-500,400) 37(-600,300) 38(-500,300) 39(-600,200) 40(-500,200) 41(-600,100) 42(-500,100) 43(-600,0) 44(-500,0) 45(-600,-100) 46(-500,-100) 47(-600,-200) 48(-500,-200) 49(-600,-300) 50(-500,-300) 51(-600,-400) 52(-500,-400) 53(-600,-500) 54(-500,-600) 55(-500,-500) 56(-400,-600) 57(-400,-500) 58(-300,-600) 59(-300,-500) 60(-200,-600) 61(-200,-500) 62(-100,-600) 63(-100,-500) 64(0,-600) 65(0,-500) 66(100,-600) 67(100,-500) 68(200,-600) 69(200,-500) 70(300,-600) 71(300,-500) 72(400,-600) 73(400,-500) 74(500,-600) 75(600,-500) 76(500,-500) 77(600,-400) 78(500,-400) 79(600,-300) 80(500,-300) 81(600,-200) 82(500,-200) 83(600,-100) 84(500,-100)
Top Overlay:
  circle w8: c3,1 r138
  lines w8: -694.12,-441.51 -520.06,-441.51 -520.06,-458.5 -692,-458.5 ; -694.12,-339.62 -520.06,-339.62 -520.06,-356.61 -692,-356.61 ; -694.12,-239.86 -520.06,-239.86 -520.06,-256.84 -692,-256.84 ; -694.12,-142.21 -520.06,-142.21 -520.06,-159.2 -692,-159.2 ; -694.12,-38.2 -520.06,-38.2 -520.06,-55.19 -692,-55.19 ; -694.12,58 -520.06,58 -520.06,41 -692,41 ; -694.12,158 -520.06,158 -520.06,141 -692,141 ; -694.12,262 -520.06,262 -520.06,245 -692,245 ; -694.12,359 -520.06,359 -520.06,342 -692,342 ; -694.12,459 -520.06,459 -520.06,442 -692,442 ; -692,-636.8 -645.3,-636.8 -645.3,-558.26 -692,-558.26 ; -692,561 -645.3,561 -645.3,639 -692,639 ; -581.62,512 -581.62,695 ; -579.5,-564.63 -401.19,-564.63 ccw(c-401.19,-509.44) -346,-509.44 ccw(c-394.82,-509.44) -394.82,-460.62 -458.5,-460.62 -458.5,463 -399.07,463 ccw(c-399.03,516.03) -346,516 ccw(c-396.97,516.03) -396.94,567 -579.5,567 ; -577.37,-634.68 -477.61,-634.68 cw(c-477.61,-647.41) -464.87,-647.41 -460.63,-675.01 567,-675.01 567,-632.56 582,-632.56 ; -577.37,637 -475.48,637 ccw(c-475.79,648.12) -464.87,646 -458.5,680 569,680 569,637 582,637 ; -520.06,493 -520.06,510 ; -411.8,-456.37 -411.8,461 ; 550,-462.74 682,-462.74 682,463 559,463 ; 555,-564.63 586,-564.63 ; 557,567 584,567 ; -696.24,-700.48 701,-700.48 701,699 -696.24,699 -696.24,-700.48 ; -225.01,-195.28 -225.01,196 cw(c-186.9,195.9) -186.8,234 338,234 cw(c338,196) 376,196 376,-193.16 cw(c337.89,-193.26) 338,-231.37 -188.92,-231.37 cw(c-188.92,-195.28) -225.01,-195.28
Mechanical 16:
  lines w8: -694.12,-488.21 -520.06,-488.21 -520.06,-505.19 -692,-505.19 ; -694.12,-390.57 -520.06,-390.57 -520.06,-407.55 -692,-407.55 ; -694.12,-292.93 -520.06,-292.93 -520.06,-309.91 -692,-309.91 ; -694.12,-188.91 -520.06,-188.91 -520.06,-205.9 -692,-205.9 ; -694.12,-89.15 -520.06,-89.15 -520.06,-106.13 -692,-106.13 ; -694.12,7 -520.06,7 -520.06,-10.61 -692,-10.61 ; -694.12,111 -520.06,111 -520.06,94 -692,94 ; -694.12,209 -520.06,209 -520.06,192 -692,192 ; -694.12,308 -520.06,308 -520.06,291 -692,291 ; -694.12,412 -520.06,412 -520.06,395 -692,395 ; -694.12,510 -520.06,510 ; -692,493 -520.06,493 ; -581.62,-696.23 -581.62,-509.44 ; -350.25,-509.44 -507.32,-509.44 -507.32,512 -350.25,512 ; 438,-318.4 510,-318.4 438,-286.56 510,-252.59 438,-252.59 ; 438,-150.7 512,-174.06 ; 438,-137.97 438,-97.64 512,-97.64 ; 438,121 510,121 ; 438,166 512,219 ; 438,219 512,166 ; 438,240 438,289 512,289 512,240 ; 438,338 510,338 ; 455,-184.67 ccw(c457.88,-204.65) 440,-195.28 ccw(c464.58,-208.02) 440,-220.76 ccw(c459.1,-210.62) 453,-231.37 ccw(c456.73,-218.44) 467,-227.12 ccw(c447.85,-209.29) 474,-210.14 ; 474,-205.89 474,-210.14 ; 476,247 476,285 ; 493,-188.91 cw(c487.49,-211.54) 506,-197.41 cw(c490.44,-209.08) 506,-220.76 cw(c491.9,-210.22) 487,-227.12 cw(c491.83,-209.96) 474,-210.14 ; 512,94 512,149 ; 512,310 512,368 ; 521,-500.95 ccw(c529.24,-501.19) 529,-509.44 697,-509.44 ; 521,-498.82 cw(c529.24,-498.58) 529,-490.33 697,-490.33 ; 550,-462.74 ccw(c550.23,-504.97) 508,-505.19 508,-517.93 ccw(c554.85,-517.78) 555,-564.63 ; 557,567 ccw(c557,518) 508,518 508,514 ccw(c559,514) 559,463 ; 586,-696.23 586,-513.68 ; 586,516 586,695 ; 616,-458.49 616,459 ; 697,512 529,512 ccw(c529,504) 521,504 521,499 ccw(c529,499) 529,491 699,491 ; 472,-74.29 cw(c472,-40.33) 472,-6.37 478,-6.37 cw(c478,-40.33) 478,-74.29 472,-74.29 ; 472,11 cw(c472,45) 472,79 478,79 cw(c478,45) 478,11 472,11